# EAGLE library part PCA9306 (library chlk_bot)
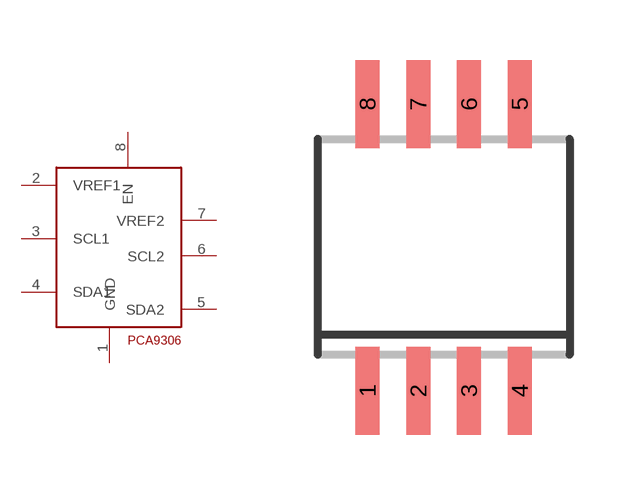
[diagram p17: symbol with the pads of SOP-08; footprint SOP-08]

Designator prefix -

## PCA9306  [SOP-08]
1  GND
2  VREF1
3  SCL1
4  SDA1
5  SDA2
6  SCL2
7  VREF2
8  EN

## Footprint SOP-08 (pad centres in mm)
PS (R-PDSO-G8) Source: http://focus.ti.com .. sn65176b.pdf
smd 0.6 x 2.2: 1 -1.905,-3.6; 2 -0.635,-3.6; 3 0.635,-3.6; 4 1.905,-3.6; 5 1.905,3.575; 6 0.635,3.575; 7 -0.635,3.575; 8 -1.905,3.575